# EAGLE library part EFM8BB31F64G-C-QFN32 (library EurorackModularParts)
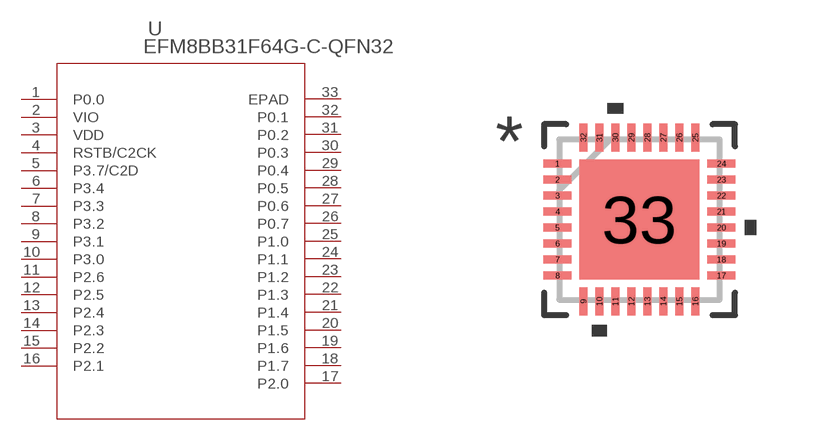
[diagram p26: symbol with the pads of QFN32_4X4; footprint QFN32_4X4]

Designator prefix U

## EFM8BB31F64G-C-QFN32 (BUILT_BY: EMA_Jessica; COPYRIGHT: Copyright (C) 2018 Accelerated Designs. All rights reserved; MANUFACTURER_PART_NUMBER: EFM8BB31F64G-C-QFN32; VENDOR: Silicon Labs)  [QFN32_4X4]
1  P0.0
2  VIO
3  VDD  pwr
4  RSTB/C2CK
5  P3.7/C2D
6  P3.4
7  P3.3
8  P3.2
9  P3.1
10  P3.0
11  P2.6
12  P2.5
13  P2.4
14  P2.3
15  P2.2
16  P2.1
17  P2.0
18  P1.7
19  P1.6
20  P1.5
21  P1.4
22  P1.3
23  P1.2
24  P1.1
25  P1.0
26  P0.7
27  P0.6
28  P0.5
29  P0.4
30  P0.3
31  P0.2
32  P0.1
33  EPAD  pas

## Footprint QFN32_4X4 (pad centres in mm)
smd 0.7 x 0.2: 1 -2.05,1.4; 2 -2.05,1; 3 -2.05,0.6; 4 -2.05,0.2; 5 -2.05,-0.2; 6 -2.05,-0.6; 7 -2.05,-1; 8 -2.05,-1.4; 17 2.05,-1.4; 18 2.05,-1; 19 2.05,-0.6; 20 2.05,-0.2; 21 2.05,0.2; 22 2.05,0.6; 23 2.05,1; 24 2.05,1.4
smd 0.2 x 0.7: 9 -1.4,-2.05; 10 -1,-2.05; 11 -0.6,-2.05; 12 -0.2,-2.05; 13 0.2,-2.05; 14 0.6,-2.05; 15 1,-2.05; 16 1.4,-2.05; 25 1.4,2.05; 26 1,2.05; 27 0.6,2.05; 28 0.2,2.05; 29 -0.2,2.05; 30 -0.6,2.05; 31 -1,2.05; 32 -1.4,2.05
smd 3 x 3: 33 0,0